# Altium footprint library Transistores.PcbLib: 28 footprints (part 1 of 2)
Each footprint in its own frame and in the unit in brackets; x right, y up, seen from the top. Pads: shape width x height; smd on the part's side, far side on the other; paste and mask are expansions set on the pad; w line width, h text height; cw(c..) or ccw(c..) is an arc to the next point about the centre after c.
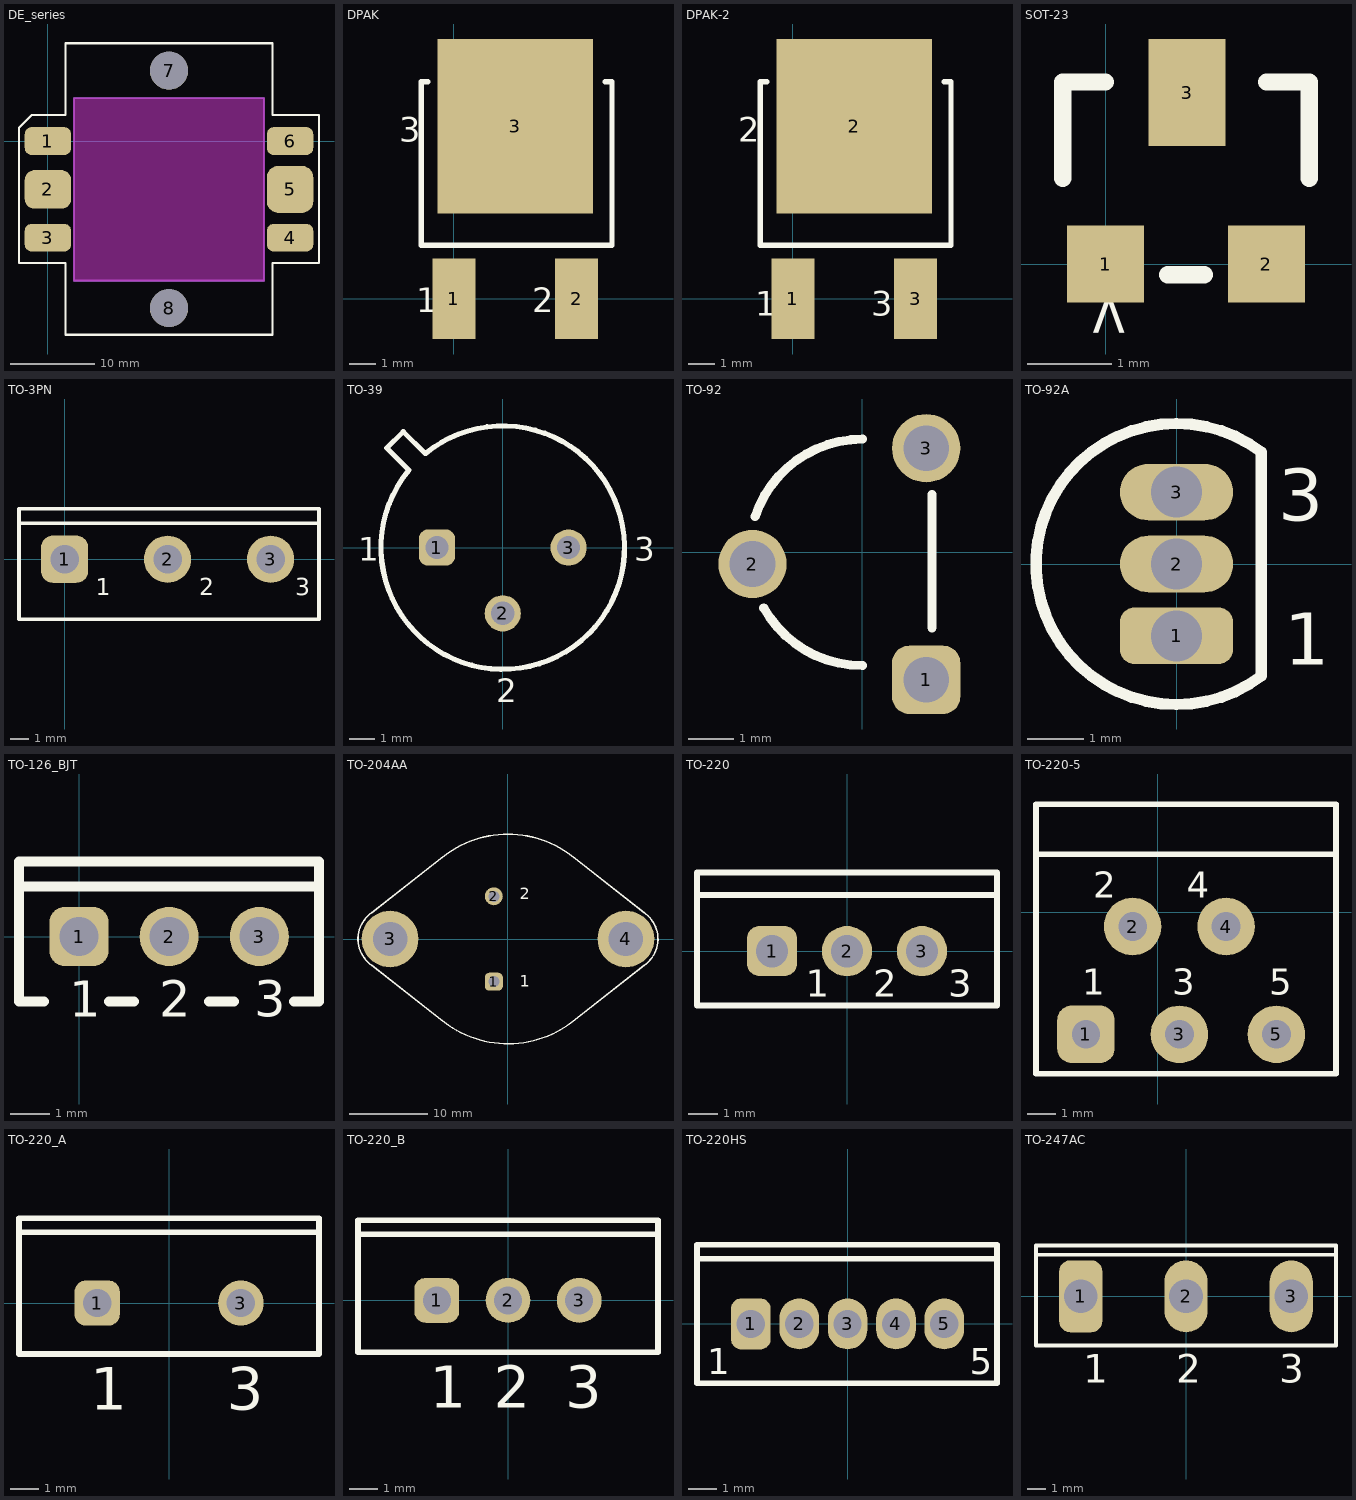
[diagram p0: the footprints below, top view; thin cyan lines are the x and y axes]

## DE_series [mm]
height 2.67
pads (8):
  rrect50% 5.5x3.3 smd: 1(0,0) 3(0,-11.43) 4(28.65,-11.43) 6(28.65,0)
  rrect50% 5.5x4.57 smd: 2(0,-5.715)
  rrect50% 5.5x5.59 smd: 5(28.65,-5.715)
  round 4.5 hole 4.5 unplated: 7(14.33,8.335) 8(14.33,-19.765)
Top Overlay:
  lines w0.254: -3.425,-14.415 2.075,-14.415 2.075,-22.915 26.575,-22.915 26.575,-14.415 32.075,-14.415 32.075,3.085 26.575,3.085 26.575,11.585 26.075,11.585 2.075,11.585 2.075,6.085 2.075,3.085 -1.925,3.085 -3.425,1.585 -3.425,-14.415
Keep-Out Layer:
  board cut-out: 3.075,5.085 25.575,5.085 25.575,-16.515 3.075,-16.515
Mechanical 1:
  lines w0.254: 3.075,-16.515 25.585,-16.515 25.585,5.085 3.075,5.085 3.075,-16.515
3D body: height 1.67, standoff -1, extent 6,-13.5 22.5,2

## DPAK [mil]
pads (3):
  rect 63x118 smd: 1(0,0) 2(180,0)
  rect 228x255.91 smd: 3(90,253)
Top Overlay:
  lines w8: -37.95,318.46 -47.95,318.46 -47.95,78.47 232.05,78.47 232.05,318.46 222.05,318.46
  text "2" at 115,-20 h36
  text "1" at -55,-20 h36
  text "3" at -80,230 h36
3D body "DPAK.STEP": height 94.49, standoff 0, extent -38.84,-23.82 221,373.82

## DPAK-2 [mil]
pads (3):
  rect 63x118 smd: 1(0,0) 3(180,0)
  rect 228x255.91 smd: 2(90,253)
Top Overlay:
  lines w8: -37.95,318.46 -47.95,318.46 -47.95,78.47 232.05,78.47 232.05,318.46 222.05,318.46
  text "2" at -80,230 h36
  text "1" at -55,-25 h36
  text "3" at 115,-25 h36
3D body "DPAK.STEP": height 94.49, standoff 0, extent -38.84,-23.82 221,373.82

## SOT-23 [mil]
height 43.31
pads (3):
  rect 36x36 smd: 1(0,0) 2(75,0)
  rect 36x50 smd: 3(38,80)
Top Overlay:
  lines w8: -20,40 -20,85 0,85 ; 29,-5 46,-5 ; 75,85 95,85 95,40
  text ">" at 10,-35 h20
3D body "SOT23-3.STEP": height 40.16, standoff 0, extent -19.68,-6.42 95.28,91.06

## TO-3PN [mm] "TO, Thru-Hole, Vertical, 3 In-Line Leads; Pitch 2.54 mm"
pads (3):
  rrect50% 2.5x2.5 hole 1.5: 1(0,0)
  round 2.5 hole 1.5: 2(5.45,0) 3(10.9,0)
Top Overlay:
  lines w0.2: -2.413,1.905 13.462,1.905 ; -2.413,-3.175 -2.413,2.667 13.462,2.667 13.462,-3.175 -2.413,-3.175
  text "3" at 12.192,-1.905 h0.91
  text "2" at 7.112,-1.905 h0.91
  text "1" at 1.651,-1.905 h0.91
3D body "TO-3P.step": height 23.9, standoff -16, extent -2.466,-2.919 13.134,1.791

## TO-39 [mm] "Can; 3 Leads; Pin Circle Dia. 5.08 mm; Lead Dia. 0.48 mm (max)"
height 4.55
pads (3):
  rrect50% 1.4x1.4 hole 0.9: 1(-2.54,0)
  round 1.4 hole 0.9: 2(0,-2.54) 3(2.54,0)
Top Overlay:
  lines w0.2: -4.475,3.838 -3.838,4.475 -2.99,3.626 cw(c0,0) -3.626,2.99 -4.475,3.838
  text "3" at 5.08,-0.508 h0.91
  text "2" at -0.254,-5.969 h0.91
  text "1" at -5.588,-0.508 h0.91
3D body "TO-39_TO-205AD.step": height 6.6, standoff -11.82, extent -4.699,-4.7 4.688,4.7

## TO-92 [mm]
height 6.86
pads (3):
  rrect50% 1.5x1.5 hole 1: 1(1.397,-2.794)
  round 1.5 hole 1: 2(-2.413,-0.254) 3(1.397,2.286)
Top Overlay:
  lines w0.2: -2.357,0.786 cw(c0,0) 0,2.484 ; -2.165,-1.218 ccw(c0,0) 0,-2.484 ; 1.524,-1.651 1.524,1.27
3D body "User Library-TO-92-2_54.STEP": height 9.7, standoff -2.7, extent -2.639,-3.049 1.651,2.541

## TO-92A [mm] "TO, Flat Index; 3 In-Line, Axial Leads; Body Dia. 4.5mm; Leads 0.51 x 0.48 mm (max)"
height 6.86
pads (3):
  rrect50% 2x1 hole 0.9: 1(0,-1.27)
  oval 2x1 hole 0.9: 2(0,0) 3(0,1.27)
Top Overlay:
  lines w0.2: 1.5,-1.98 cw(c0,0) 1.5,1.98 1.5,-1.98
  text "1" at 1.905,-1.778 h0.91
  text "3" at 1.795,0.764 h0.91
3D body "TO-92-6.step": height 7, standoff -3, extent -2.5,-2.492 1.501,2.492

## TO-126_BJT [mm]
pads (3):
  rrect50% 1.5x1.5 hole 1: 1(0,0)
  round 1.5 hole 1: 2(2.29,0) 3(4.58,0)
Top Overlay:
  lines w0.254: -0.889,-1.651 -1.524,-1.651 -1.524,1.27 ; 0.762,-1.651 1.397,-1.651 ; 3.302,-1.651 3.937,-1.651 ; 5.461,-1.651 6.096,-1.651 6.096,1.27 ; -1.524,1.27 -1.524,1.905 6.096,1.905 6.096,1.27 ; -1.524,1.27 6.096,1.27
  text "1" at -0.254,-2.032 h0.91
  text "2" at 2.032,-2.032 h0.91
  text "3" at 4.445,-2.032 h0.91
3D body "BD135 (TO-126,SOT32) v4.step": height 15.7, standoff -2.25, extent -1.535,-0.825 6.265,1.875

## TO-204AA [mm] "Oval Flange Mount with (2) Offset Leads; Pin Spacing 10.92 mm; Lead Dia. 1.07 mm (max)"
height 7.87
pads (4):
  rrect50% 2.3x2.3 hole 1.4: 1(-1.815,-5.46)
  round 2.3 hole 1.4: 2(-1.815,5.46)
  round 7.25 hole 4.4: 3(-15.075,0) 4(15.075,0)
Top Overlay:
  lines w0.2: -17.427,-3.359 -8.299,-10.521 ; -17.427,-3.358 cw(c-15.075,0) -17.427,3.359 -8.299,10.521 ; -8.613,-10.265 ccw(c0,0) 8.298,-10.521 17.427,-3.359 ; -8.613,10.265 cw(c0,0) 8.613,10.265 ; 8.299,10.521 17.427,3.359 ; 17.308,3.439 cw(c15.075,0) 17.427,-3.358
  text "1" at 1.524,-6.096 h1.5
  text "2" at 1.524,5.08 h1.5
3D body "TO-204AA-3_Short.STEP": height 8.5, standoff -3, extent -19.795,-13.097 19.795,13.081

## TO-220 [mm] "TO, Thru-Hole, Vertical, Heatsink Mounted; 3 In-Line Leads; Pitch 2.54 mm"
height 22.9
pads (3):
  rrect50% 1.7x1.7 hole 1.1: 1(-2.54,0)
  round 1.7 hole 1.1: 2(0,0) 3(2.54,0)
Top Overlay:
  lines w0.2: -5.08,1.905 5.08,1.905 ; -5.08,-1.85 5.08,-1.85 5.08,2.667 -5.08,2.667 -5.08,-1.85
  text "1" at -1.393,-1.539 h0.91
  text "2" at 0.897,-1.539 h0.91
  text "3" at 3.437,-1.539 h0.91
3D body "TO-220-4.STEP": height 20.06, standoff -8.74, extent -5.1,-1.833 5.1,2.667

## TO-220-5 [mil]
height 598.43
pads (5):
  rrect50% 80x80 hole 39.37: 1(-100,-170)
  round 80 hole 40: 2(-35,-20) 3(30,-170) 4(95,-20) 5(165,-170)
Top Overlay:
  lines w7.87: -169.45,80.55 247.87,80.55 ; -169.45,-225 247.87,-225 247.87,150.24 -169.45,150.24 -169.45,-225
  text "1" at -105,-115 h36
  text "5" at 155,-115 h36
  text "2" at -90,20 h36
  text "3" at 20,-115 h36
  text "4" at 40,20 h36
3D body "TO220-5.STEP": height 840.55, standoff -103.94, extent -170,-174.41 230,150

## TO-220_A [mm] "TO, Thru-Hole, Vertical, Heatsink Mounted; 3 In-Line Leads (1 Absent); Pitch 2.54 mm"
height 19.3
pads (2):
  rrect50% 1.6x1.6 hole 1: 1(-2.54,0)
  round 1.6 hole 1: 3(2.54,0)
Top Overlay:
  lines w0.2: -5.3,2.5 5.3,2.5 ; -5.3,-1.8 -5.3,3 5.3,3 5.3,-1.8 -5.3,-1.8
  text "1" at -2.79,-3.775 h1.5
  text "3" at 2.04,-3.775 h1.5

## TO-220_B [mm] "TO, Thru-Hole, Vertical, Heatsink Mounted; 3 In-Line Leads; Pitch 2.54 mm"
height 19
pads (3):
  rrect50% 1.6x1.6 hole 1: 1(-2.54,0)
  round 1.6 hole 1: 2(0,0) 3(2.54,0)
Top Overlay:
  lines w0.2: -5.35,2.35 5.35,2.35 ; -5.35,-1.85 5.35,-1.85 5.35,2.85 -5.35,2.85 -5.35,-1.85
  text "2" at -0.5,-3.825 h1.5
  text "1" at -2.79,-3.825 h1.5
  text "3" at 2.04,-3.825 h1.5

## TO-220HS [mm] "TO, Thru-Hole, Vertical, Heatsink Mounted; 5 In-Line Leads; Pitch 1.71 mm"
height 15.2
pads (5):
  rrect50% 1.4x1.8 hole 1: 1(-3.42,0)
  oval 1.4x1.8 hole 1: 2(-1.71,0) 3(0,0) 4(1.71,0) 5(3.42,0)
Top Overlay:
  lines w0.2: -5.32,2.3 5.28,2.3 ; -5.32,-2.1 -5.32,2.8 5.28,2.8 5.28,-2.1 -5.32,-2.1
  text "5" at 4.318,-1.778 h0.91
  text "1" at -4.953,-1.778 h0.91
3D body "to-220-5 v2.step": height 20, standoff -7.82, extent -5.08,-2.159 5.08,2.791

## TO-247AC [mil] "SIP with Mounting Hole; 3 Leads; Body 20 x 15.6 x 5 mm (typ); Pitch 5.45 mm"
height 968.5
pads (3):
  rrect50% 90x150 hole 70: 1(-219.57,0)
  oval 90x150 hole 70: 2(0,0) 3(219.57,0)
Top Overlay:
  lines w7.87: -312.99,86.61 312.99,86.61 ; -312.99,-102.36 -312.99,106.3 312.99,106.3 312.99,-102.36 -312.99,-102.36
  text "3" at 194.57,-180.12 h59.06
  text "2" at -20,-180.12 h59.06
  text "1" at -214.57,-180.12 h59.06
3D body "TO-247AC.STEP": height 968.5, standoff -118.11, extent -316.02,-78.66 306.02,130